# Altium schematic symbol library TC_2PIN_FEMALE.SchLib: 1 symbol
Pins are listed as number, name and electrical type; pins without a type are passive.

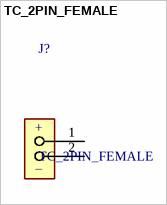
[diagram p0: symbol TC_2PIN_FEMALE]

## TC_2PIN_FEMALE
designator J?
Universal SMD thermocouple connector, 2 pin, Female; Value: TC_2PIN_FEMALE; ComponentLink1Description: Datasheet; ComponentLink1URL: https://www.farnell.com/datasheets/2913879.pdf
footprint TC_PCC-SMD (SMD universal thermocouple connector)
pins: 1, 2
text: +; –